# Altium schematic symbol library AMEOF3-5SJZ.SchLib: 1 symbol
Pins are listed as number, name and electrical type; pins without a type are passive.

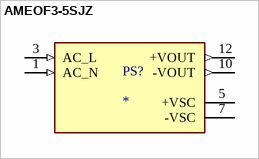
[diagram p0: symbol AMEOF3-5SJZ]

## AMEOF3-5SJZ
designator PS?
Converter: AC/DC; 3W; Uout: 5VDC; Iout: 500mA; 68%; Mounting: PCB; 3kV; MP: AMEOF3-5SJZ; MF: {'manufacturer': u'Aimtec'}; Package: None; Value: *; Price: None; Availability: Unavailable
footprint CONV_AMEOF3-5SJZ
pins: 1 AC_N (in), 3 AC_L (in), 5 +VSC, 7 -VSC, 10 -VOUT (out), 12 +VOUT (out)